# EAGLE library part IOTAWATT_PARTS_NODEMCU (library IotaWatt3.2)
NodeMCU 1.0 ESP8266
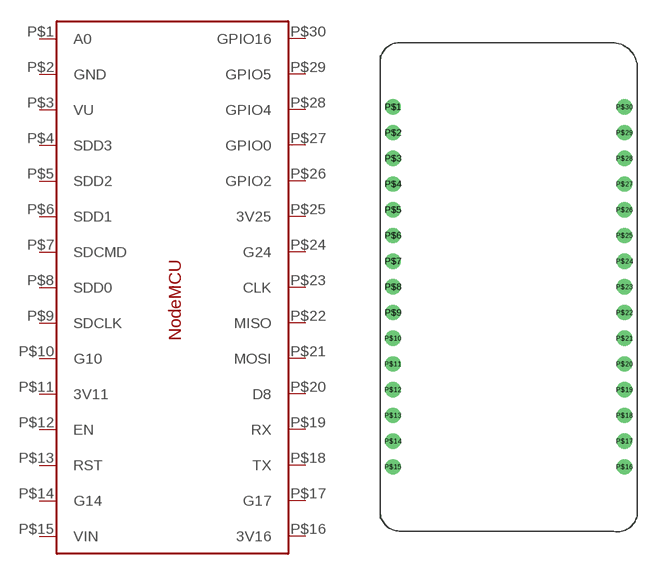
[diagram p2: symbol with the pads of IOTAWATT_PARTS_NODEMCU; footprint IOTAWATT_PARTS_NODEMCU]

Designator prefix -

## IOTAWATT_PARTS_NODEMCU  [IOTAWATT_PARTS_NODEMCU]
P$1  A0
P$2  GND
P$3  VU
P$4  SDD3
P$5  SDD2
P$6  SDD1
P$7  SDCMD
P$8  SDD0
P$9  SDCLK
P$10  G10
P$11  3V11
P$12  EN
P$13  RST
P$14  G14
P$15  VIN
P$16  3V16
P$17  G17
P$18  TX
P$19  RX
P$20  D8
P$21  MOSI
P$22  MISO
P$23  CLK
P$24  G24
P$25  3V25
P$26  GPIO2
P$27  GPIO0
P$28  GPIO4
P$29  GPIO5
P$30  GPIO16

## Footprint IOTAWATT_PARTS_NODEMCU (pad centres in mm)
NodeMCU 1.0
drill 1: P$1 -11.43,17.78; P$2 -11.43,15.24; P$3 -11.43,12.7; P$4 -11.43,10.16; P$5 -11.43,7.62; P$6 -11.43,5.08; P$7 -11.43,2.54; P$8 -11.43,0; P$9 -11.43,-2.54; P$10 -11.43,-5.08; P$11 -11.43,-7.62; P$12 -11.43,-10.16; P$13 -11.43,-12.7; P$14 -11.43,-15.24; P$15 -11.43,-17.78; P$16 11.43,-17.78; P$17 11.43,-15.24; P$18 11.43,-12.7; P$19 11.43,-10.16; P$20 11.43,-7.62; P$21 11.43,-5.08; P$22 11.43,-2.54; P$23 11.43,0; P$24 11.43,2.54; P$25 11.43,5.08; P$26 11.43,7.62; P$27 11.43,10.16; P$28 11.43,12.7; P$29 11.43,15.24; P$30 11.43,17.78